# Altium schematic symbol library MOSFET_N.Schlib: 1 symbol
Pins are listed as number, name and electrical type; pins without a type are passive.

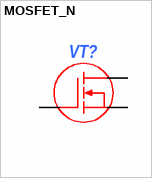
[diagram p0: symbol MOSFET_N]

## MOSFET_N
designator VT?
pins: 1 G, 2 D, 3 S